# Altium footprint library RS-19.PcbLib: 1 footprints
Each footprint in its own frame and in the unit in brackets; x right, y up, seen from the top. Pads: shape width x height; smd on the part's side, far side on the other; paste and mask are expansions set on the pad; w line width, h text height; cw(c..) or ccw(c..) is an arc to the next point about the centre after c.
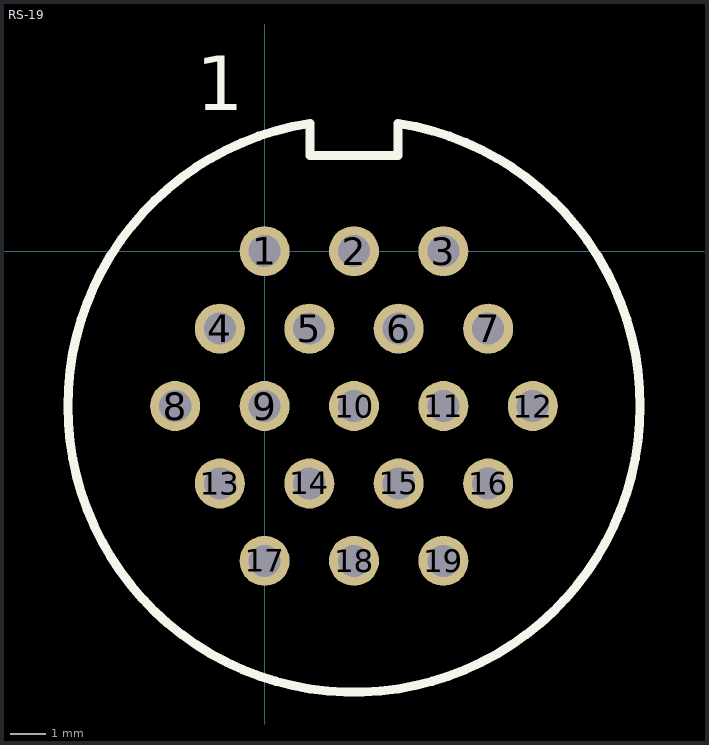
[diagram p0: the footprint, top view; thin cyan lines are the x and y axes]

## RS-19 [mm]
pads (19):
  round 1.4 hole 0.9: 1(0,0) 2(2.5,0) 3(5,0) 4(-1.25,-2.165) 5(1.25,-2.165) 6(3.75,-2.165) 7(6.25,-2.165) 8(-2.5,-4.33) 9(0,-4.33) 10(2.5,-4.33) 11(5,-4.33) 12(7.5,-4.33) 13(-1.25,-6.495) 14(1.25,-6.495) 15(3.75,-6.495) 16(6.25,-6.495) 17(0,-8.66) 18(2.5,-8.66) 19(5,-8.66)
Top Overlay:
  lines w0.254: 1.265,2.67 3.735,2.67 3.735,3.574 cw(c2.5,-4.33) 1.265,3.574 1.265,2.67
  text "1" at -1.905,3.937 h1.52